# EAGLE library part FD6288Q (library ATSAM)
MOS DRIVERS QFN-24 ROHS
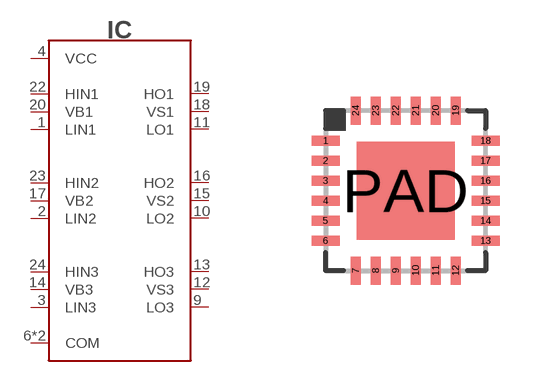
[diagram p0: symbol with the pads of QFN-24; footprint QFN-24]

Designator prefix IC

## FD6288Q (LCSC#: C328453; MANF: Fortior Tech; MANF#: FD6288Q)  [QFN-24]
1  LIN1
2  LIN2
3  LIN3
4  VCC
6  COM
9  LO3
10  LO2
11  LO1
12  VS3
13  HO3
14  VB3
15  VS2
16  HO2
17  VB2
18  VS1
19  HO1
20  VB1
22  HIN1
23  HIN2
24  HIN3
PAD  COM

## Footprint QFN-24 (pad centres in mm)
https://www.analog.com/media/en/package-pcb-resources/package/pkg_pdf/ltc-legacy-qfn/(UF24)%20QFN%2005-08-1697%20Rev%20B.pdf
smd 0.7 x 0.25: 1 -2,1.25; 2 -2,0.75; 3 -2,0.25; 4 -2,-0.25; 5 -2,-0.75; 6 -2,-1.25; 13 2,-1.25; 14 2,-0.75; 15 2,-0.25; 16 2,0.25; 17 2,0.75; 18 2,1.25
smd 0.25 x 0.7: 7 -1.25,-2; 8 -0.75,-2; 9 -0.25,-2; 10 0.25,-2; 11 0.75,-2; 12 1.25,-2; 19 1.25,2; 20 0.75,2; 21 0.25,2; 22 -0.25,2; 23 -0.75,2; 24 -1.25,2
smd 2.45 x 2.45: PAD 0,0